# EAGLE library part ULTRA_MINI (library ULTRA_MINI)
ARDUINO_ULTRA_MINI. Rocketscream. By Dennis Revolorio on Flatbox
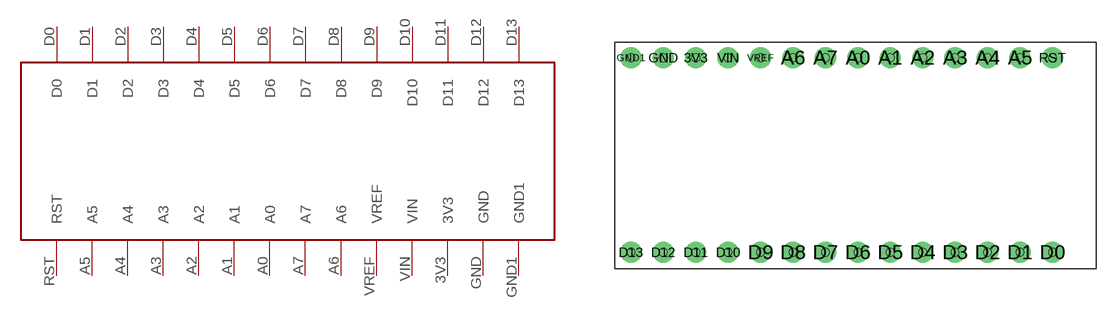
[diagram p0: symbol with the pads of ULTRA_MINI; footprint ULTRA_MINI]

Designator prefix -

## ULTRA_MINI  [ULTRA_MINI]
3V3  3V3
A0  A0
A1  A1
A2  A2
A3  A3
A4  A4
A5  A5
A6  A6
A7  A7
D0  D0
D1  D1
D2  D2
D3  D3
D4  D4
D5  D5
D6  D6
D7  D7
D8  D8
D9  D9
D10  D10
D11  D11
D12  D12
D13  D13
GND  GND
GND1  GND1
RST  RST
VIN  VIN
VREF  VREF

## Footprint ULTRA_MINI (pad centres in mm)
drill 0.8 pad 1.676: 3V3 6.35,16.51; A0 19.05,16.51; A1 21.59,16.51; A2 24.13,16.51; A3 26.67,16.51; A4 29.21,16.51; A5 31.75,16.51; A6 13.97,16.51; A7 16.51,16.51; D0 34.29,1.27; D1 31.75,1.27; D2 29.21,1.27; D3 26.67,1.27; D4 24.13,1.27; D5 21.59,1.27; D6 19.05,1.27; D7 16.51,1.27; D8 13.97,1.27; D9 11.43,1.27; D10 8.89,1.27; D11 6.35,1.27; D12 3.81,1.27; D13 1.27,1.27; GND 3.81,16.51; GND1 1.27,16.51; RST 34.29,16.51; VIN 8.89,16.51; VREF 11.43,16.51
hole 0.6 at 1.27,16.51
hole 0.6 at 3.81,16.51
hole 0.6 at 6.35,16.51
hole 0.6 at 8.89,16.51
hole 0.6 at 11.43,16.51
hole 0.6 at 13.97,16.51
hole 0.6 at 16.51,16.51
hole 0.6 at 19.05,16.51
hole 0.6 at 21.59,16.51
hole 0.6 at 24.13,16.51
hole 0.6 at 26.67,16.51
hole 0.6 at 29.21,16.51
hole 0.6 at 31.75,16.51
hole 0.6 at 34.29,16.51
hole 0.6 at 1.27,1.27
hole 0.6 at 3.81,1.27
hole 0.6 at 6.35,1.27
hole 0.6 at 8.89,1.27
hole 0.6 at 13.97,1.27
hole 0.6 at 11.43,1.27
hole 0.6 at 16.51,1.27
hole 0.6 at 19.05,1.27
hole 0.6 at 21.59,1.27
hole 0.6 at 34.29,1.27
hole 0.6 at 31.75,1.27
hole 0.6 at 29.21,1.27
hole 0.6 at 26.67,1.27
hole 0.6 at 24.13,1.27